# Altium integrated library Diodes.IntLib: 11 symbols
Pins are listed as number, name and electrical type; pins without a type are passive.

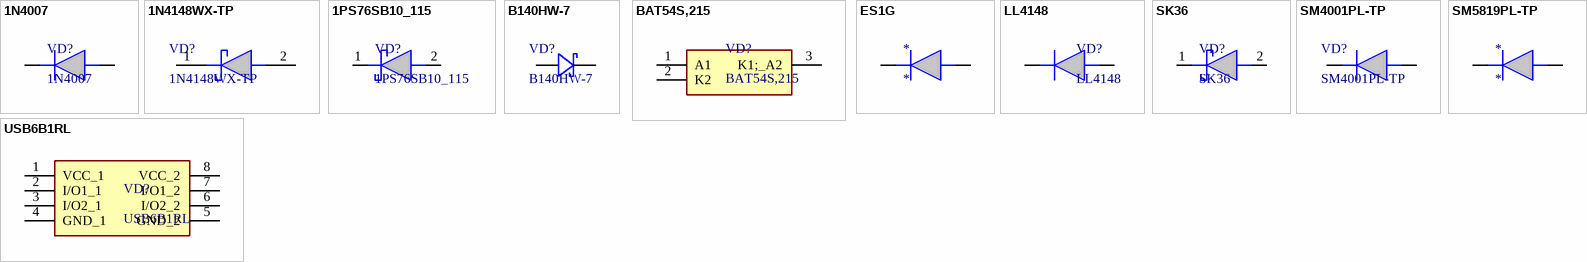
[diagram p0: symbols 1N4007 to USB6B1RL]

## 1N4007
designator VD?
footprint 1N4007
pins: 1 K, 2 A

## 1N4148WX-TP
designator VD?
footprint 1PS76SB10_115
pins: 1 K, 2 A

## 1PS76SB10_115
designator VD?
footprint 1PS76SB10_115
pins: 1 K, 2 A

## B140HW-7
designator VD?
footprint B140HW-7
pins: 1, 2

## BAT54S,215
designator VD?
footprint BAT54S,215
pins: 1 A1, 2 K2, 3 K1;_A2

## ES1G
designator *
footprint ES1G
pins: 1 K, 2 A

## LL4148
designator VD?
footprint LL4148
pins: 1 K, 2 A

## SK36
designator VD?
footprint SK36
pins: 1 K, 2 A

## SM4001PL-TP
designator VD?
footprint SODFL3716X120N
pins: 1 K, 2 A

## SM5819PL-TP
designator *
footprint SM5819PL-TP (SOD123)
pins: 1 K, 2 A

## USB6B1RL
designator VD?
footprint USB6B1
pins: 1 VCC_1, 2 I/O1_1, 3 I/O2_1, 4 GND_1, 5 GND_2, 6 I/O2_2, 7 I/O1_2, 8 VCC_2